# Altium footprint library MMSZ7V5T1G.PcbLib: 1 footprints
Each footprint in its own frame and in the unit in brackets; x right, y up, seen from the top. Pads: shape width x height; smd on the part's side, far side on the other; paste and mask are expansions set on the pad; w line width, h text height; cw(c..) or ccw(c..) is an arc to the next point about the centre after c.
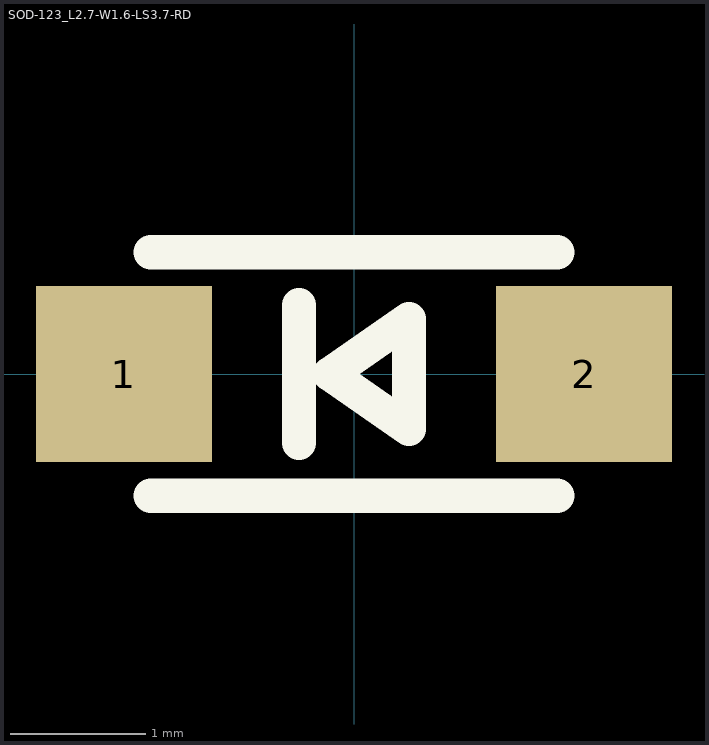
[diagram p0: the footprint, top view; thin cyan lines are the x and y axes]

## SOD-123_L2.7-W1.6-LS3.7-RD [mm]
pads (2):
  rect 1.3x1.3 smd: 1(-1.7,0) 2(1.7,0)
Top Overlay:
  lines w0.254: -1.5,-0.9 1.5,-0.9 ; -1.5,0.9 1.5,0.9 ; -0.406,-0.508 -0.406,0.508 ; -0.178,0 0.406,-0.406 0.406,0.406 -0.178,0
3D body "User Library-SOD123-1.STEP": height 1.18, standoff 0, extent -1.95,-0.9 1.95,0.9